# Altium footprint library Thermocouple_connector.PcbLib: 2 footprints
Each footprint in its own frame and in the unit in brackets; x right, y up, seen from the top. Pads: shape width x height; smd on the part's side, far side on the other; paste and mask are expansions set on the pad; w line width, h text height; cw(c..) or ccw(c..) is an arc to the next point about the centre after c.
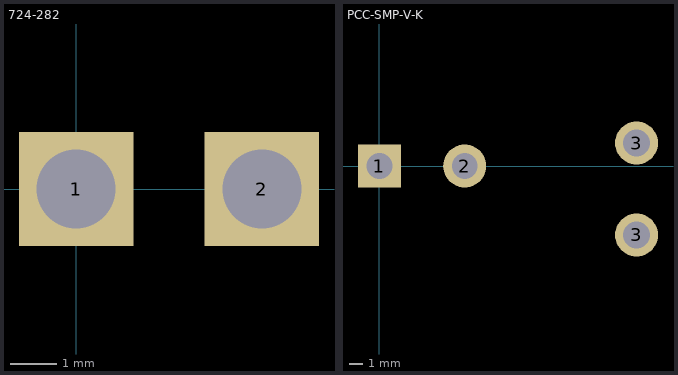
[diagram p0: the footprints below, top view; thin cyan lines are the x and y axes]

## 724-282 [mil] "Type K Miniature PCB - Side Mounting"
height 630
pads (2):
  rect 97x97 hole 67 square: 1(0,0) 2(157.48,0)
3D body: height 629.92, standoff 0, extent -284.25,-157.48 700,157.48

## PCC-SMP-V-K [mm] "Soquete de termopar especial PCCS para placa de circuito em série"
height 15.5
pads (4):
  rect 3.175x3.175 hole 1.905: 1(0,0)
  round 3.175 hole 1.905: 2(6.3,0)
  round 3.175 hole 2: 3(19,-5.1) 3(19,1.7)
3D body: height 15.5, standoff 0, extent -2.521,-5.651 22.479,2.349